# Altium footprint library TO-277A (SMPC).PcbLib: 1 footprints
Each footprint in its own frame and in the unit in brackets; x right, y up, seen from the top. Pads: shape width x height; smd on the part's side, far side on the other; paste and mask are expansions set on the pad; w line width, h text height; cw(c..) or ccw(c..) is an arc to the next point about the centre after c.
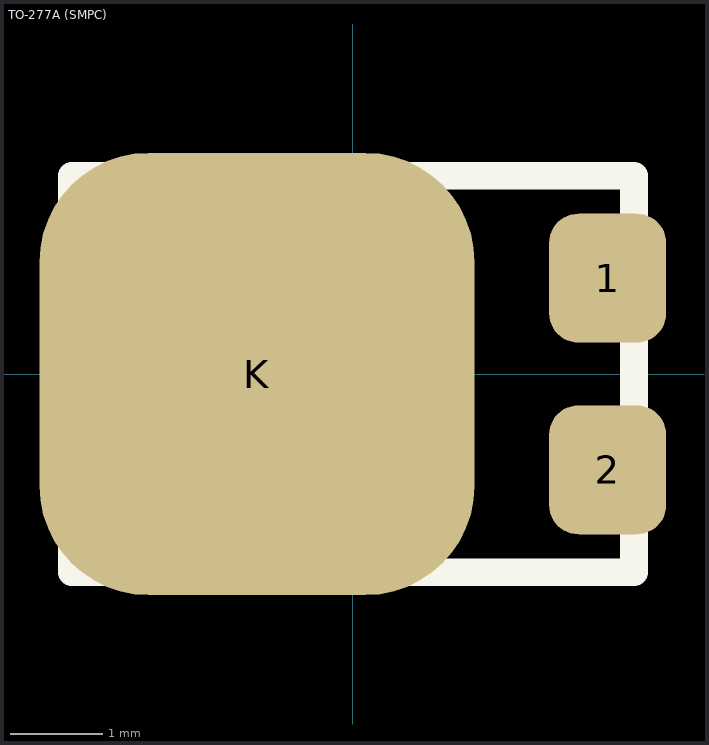
[diagram p0: the footprint, top view; thin cyan lines are the x and y axes]

## TO-277A (SMPC) [mm] "TO-277A (SMPC)"
pads (3):
  rrect50% 1.27x1.4 smd: 1(2.765,1.04) 2(2.765,-1.04)
  rrect50% 4.72x4.8 smd: K(-1.04,0)
Top Overlay:
  lines w0.3: -2,-2.15 -2,2.15 ; -3.05,-2.15 -3.05,2.15 3.05,2.15 3.05,-2.15 -3.05,-2.15
3D body: height 1, standoff 0, extent 2.802,-1.524 3.302,-0.508
3D body: height 1, standoff 0, extent 2.798,0.508 3.298,1.524
3D body: height 1, standoff 0, extent 0.508,-2.286 1.389,2.286
3D body: height 1, standoff 0, extent -3.302,-1.143 -2.802,1.143
3D body: height 2.7, standoff 0, extent -3.048,-2.159 3.048,2.159